# EAGLE library part VS23S010C8 (library vlsi-web-e7)
1 Mbit SPI SRAM
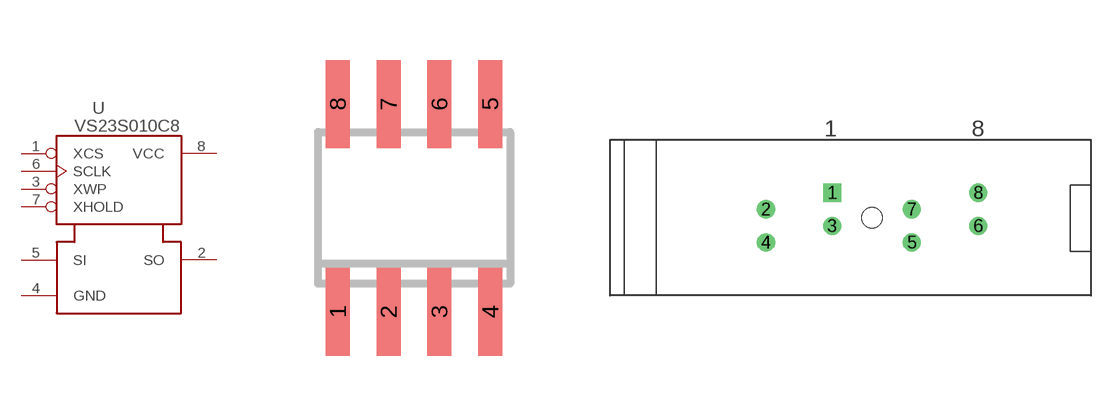
[diagram p10: symbol with the pads of SO-08; footprints SO-08, 3M_208-7391-55-1902]

Designator prefix U

## VS23S010C8-S  [SO-08]
1  XCS
2  SO
3  XWP
4  GND
5  SI
6  SCLK
7  XHOLD
8  VCC

## VS23S010C8-SCK  [3M_208-7391-55-1902]
Pads as for SO-08

## Footprint SO-08 (pad centres in mm)
Small Outline Narrow Plastic Gull Wing 150-mil body, package type SN
smd 0.6 x 2.2: 1 -1.905,-2.6; 2 -0.635,-2.6; 3 0.635,-2.6; 4 1.905,-2.6; 5 1.905,2.6; 6 0.635,2.6; 7 -0.635,2.6; 8 -1.905,2.6

## Footprint 3M_208-7391-55-1902 (pad centres in mm)
drill 0.889 pad 1.27 square: 1 -3.048,1.905
drill 0.889 pad 1.27: 2 -8.128,0.635; 3 -3.048,-0.635; 4 -8.128,-1.905; 5 3.048,-1.905; 6 8.128,-0.635; 7 3.048,0.635; 8 8.128,1.905
hole 1.575 at 0,0